# Altium integrated library 593D227X9010E2TE3.IntLib: 1 symbol
Pins are listed as number, name and electrical type; pins without a type are passive.

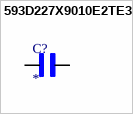
[diagram p0: symbol 593D227X9010E2TE3]

## 593D227X9010E2TE3
designator C?
Capacitor;Tantalum;220uF;Tol 10%;SMT;Vol-Rtg 10V;Size 7343-43 | Sprague / Vishay 593D227X9010E2TE3; MF: Vishay Sprague; SnapEDA_Link: https://www.snapeda.com/parts/593D227X9010E2TE3/Vishay/view-part/?ref=snap; Package: 2917 Vishay; Value: *; MP: 593D227X9010E2TE3; Check_prices: https://www.snapeda.com/parts/593D227X9010E2TE3/Vishay/view-part/?ref=eda
footprint CAPPM7343X310N
pins: 1, 2